# EAGLE library part 14P (library con-dg55)
DEGSON DG55 CONNECTOR
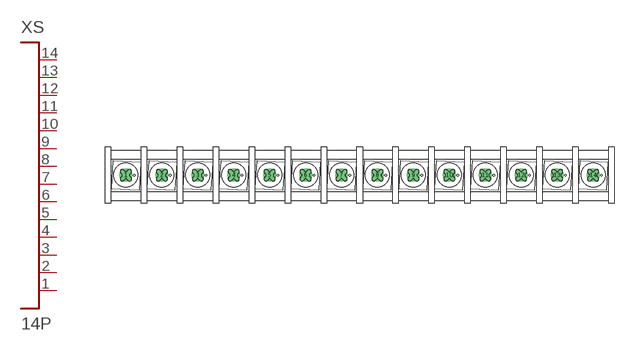
[diagram p8: symbol with the pads of DG55CB-14P-1; footprint DG55CB-14P-1]

Designator prefix XS

## 14P  [DG55CB-14P-1]
1  P$1
2  P$2
3  P$3
4  P$4
5  P$5
6  P$6
7  P$7
8  P$8
9  P$9
10  P$10
11  P$11
12  P$12
13  P$13
14  P$14

## Footprint DG55CB-14P-1 (pad centres in mm)
DG55
drill 1.8 pad 3.6: 1 -65,0; 2 -55,0; 3 -45,0; 4 -35,0; 5 -25,0; 6 -15,0; 7 -5,0; 8 5,0; 9 15,0; 10 25,0; 11 35,0; 12 45,0; 13 55,0; 14 65,0